# Altium footprint library IS-uINS-5.PcbLib: 1 footprints
Each footprint in its own frame and in the unit in brackets; x right, y up, seen from the top. Pads: shape width x height; smd on the part's side, far side on the other; paste and mask are expansions set on the pad; w line width, h text height; cw(c..) or ccw(c..) is an arc to the next point about the centre after c.
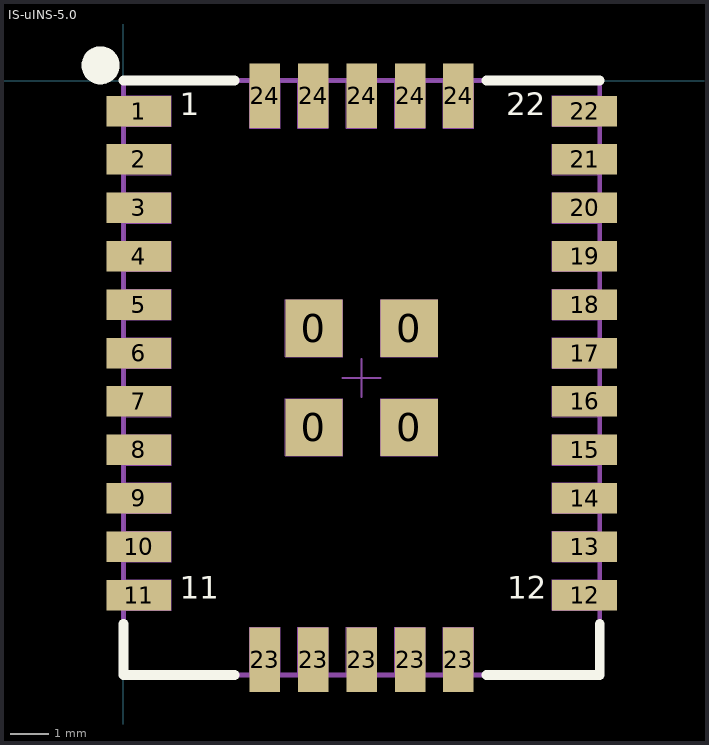
[diagram p0: the footprint, top view; thin cyan lines are the x and y axes]

## IS-uINS-5.0 [mm] "Inerial Sense uINS r5.0, 22pins 1.27mm pitch"
height 6.5
pads (36):
  rect 1.5x1.5 smd: 0(5,-9.1) 0(5,-6.5) 0(7.5,-9.1) 0(7.5,-6.5)
  rect 1.7x0.8 smd paste-2.54: 1(0.4,-0.8) 2(0.4,-2.07) 3(0.4,-3.34) 4(0.4,-4.61) 5(0.4,-5.88) 6(0.4,-7.15) 7(0.4,-8.42) 8(0.4,-9.69) 9(0.4,-10.96) 10(0.4,-12.23) 11(0.4,-13.5) 12(12.1,-13.5) 13(12.1,-12.23) 14(12.1,-10.96) 15(12.1,-9.69) 16(12.1,-8.42) 17(12.1,-7.15) 18(12.1,-5.88) 19(12.1,-4.61) 20(12.1,-3.34) 21(12.1,-2.07) 22(12.1,-0.8)
  rect 0.8x1.7 smd paste-2.54: 23(3.71,-15.2) 23(4.98,-15.2) 23(6.25,-15.2) 23(7.52,-15.2) 23(8.79,-15.2) 24(3.71,-0.4) 24(4.98,-0.4) 24(6.25,-0.4) 24(7.52,-0.4) 24(8.79,-0.4)
Top Overlay:
  circle w0.5: c-0.6,0.4 r0.25
  lines w0.254: 0,-14.25 0,-15.6 2.921,-15.6 ; 0,0 2.921,0 ; 9.525,-15.6 12.5,-15.6 ; 9.525,0 12.5,0 ; 12.5,-15.6 12.5,-14.25
  text "1" at 1.473,-1.1 h1.02
  text "11" at 1.473,-13.8 h1.02
  text "12" at 10.075,-13.8 h1.02
  text "22" at 10.048,-1.1 h1.02
Mechanical 13:
  lines w0.05: 5.75,-7.8 6.75,-7.8 ; 6.25,-8.3 6.25,-7.3
  lines w0.127: 0,-15.6 12.5,-15.6 12.5,0 0,0 0,-15.6
Mechanical 16:
  drawing of 208 lines, arcs and shapes, not listed
3D body "uINS-5.0.step": height 2.87, standoff 0.01, extent 0,-15.6 12.5,0